# Altium footprint library IND-1919.PcbLib: 1 footprints
Each footprint in its own frame and in the unit in brackets; x right, y up, seen from the top. Pads: shape width x height; smd on the part's side, far side on the other; paste and mask are expansions set on the pad; w line width, h text height; cw(c..) or ccw(c..) is an arc to the next point about the centre after c.
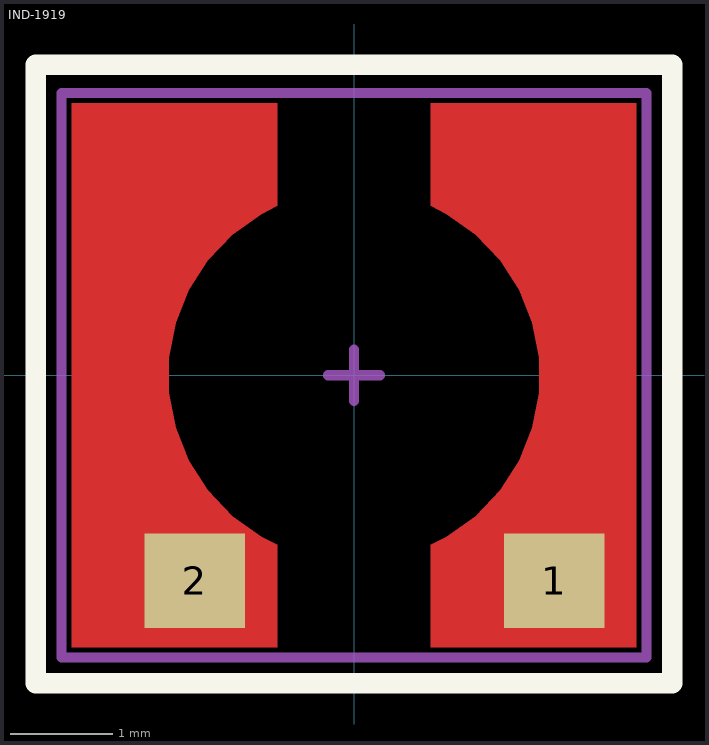
[diagram p0: the footprint, top view; thin cyan lines are the x and y axes]

## IND-1919 [mm]
height 2
pads (2):
  rect 0.98x0.92 smd paste+0 mask+0.05: 1(1.95,-2) 2(-1.55,-2)
Top Layer:
  region: -0.75,-2.65 -0.75,-1.65 -0.904,-1.571 -1.185,-1.371 -1.424,-1.122 -1.61,-0.832 -1.739,-0.511 -1.804,-0.173 -1.804,0.173 -1.739,0.511 -1.61,0.832 -1.424,1.122 -1.185,1.371 -0.904,1.571 -0.75,1.65 -0.75,2.65 -2.75,2.65 -2.75,-2.65
  region: 0.75,2.65 0.75,1.65 0.904,1.571 1.185,1.371 1.424,1.122 1.61,0.832 1.739,0.511 1.804,0.173 1.804,-0.173 1.739,-0.511 1.61,-0.832 1.424,-1.122 1.185,-1.371 0.904,-1.571 0.75,-1.65 0.75,-2.65 2.75,-2.65 2.75,2.65
Top Overlay:
  lines w0.2: -3.1,-3 -3.1,3.025 3.1,3.025 3.1,-3 -3.1,-3
Top Paste:
  region: -0.741,-2.66 -0.741,-1.66 -0.895,-1.581 -1.177,-1.381 -1.415,-1.132 -1.602,-0.841 -1.73,-0.521 -1.796,-0.182 -1.796,0.163 -1.73,0.502 -1.602,0.822 -1.415,1.112 -1.177,1.362 -0.895,1.561 -0.741,1.64 -0.741,2.64 -2.741,2.64 -2.741,-2.66
  region: 0.74,2.657 0.74,1.657 0.893,1.578 1.175,1.378 1.413,1.129 1.6,0.838 1.728,0.518 1.794,0.179 1.794,-0.166 1.728,-0.505 1.6,-0.825 1.413,-1.115 1.175,-1.365 0.893,-1.564 0.74,-1.643 0.74,-2.643 2.74,-2.643 2.74,2.657
Top Solder:
  region: -0.65,-2.75 -2.85,-2.75 -2.85,2.75 -0.65,2.75 -0.65,1.575 -0.801,1.504 -1.08,1.318 -1.316,1.082 -1.502,0.804 -1.63,0.495 -1.696,0.167 -1.696,-0.167 -1.63,-0.495 -1.502,-0.804 -1.316,-1.082 -1.08,-1.318 -0.801,-1.504 -0.65,-1.575
  region: 0.65,2.75 2.85,2.75 2.85,-2.75 0.65,-2.75 0.65,-1.575 0.801,-1.504 1.08,-1.318 1.316,-1.082 1.502,-0.804 1.63,-0.495 1.696,-0.167 1.696,0.167 1.63,0.495 1.502,0.804 1.316,1.082 1.08,1.318 0.801,1.504 0.65,1.575
Top Assembly:
  lines w0.1: -0.25,0 0.25,0 ; 0,-0.25 0,0.25 ; -2.85,-2.75 -2.85,2.75 2.85,2.75 2.85,-2.75 -2.85,-2.75
  text "'.Designator'" at 0.1,0.367 h0.8
3D body: height 2, standoff 0, extent -2.5,-2.5 2.5,2.5